# Altium integrated library ATMEGA328.IntLib: 34 symbols
Pins are listed as number, name and electrical type; pins without a type are passive.

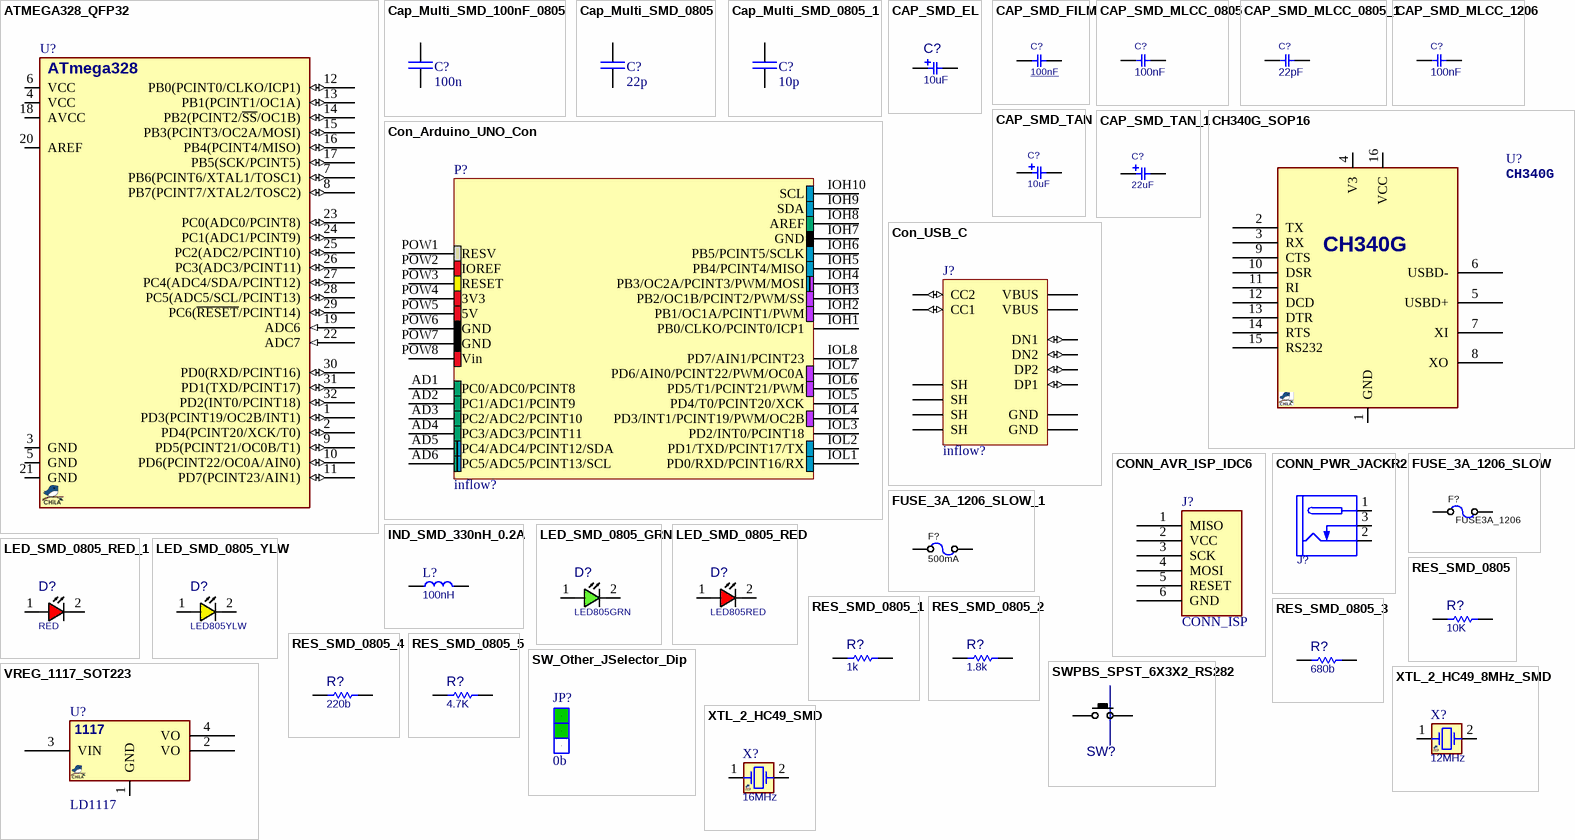
[diagram p0: symbols ATMEGA328_QFP32 to XTL_2_HC49_SMD]

## ATMEGA328_QFP32
designator U?, comment ATMEGA328  (value not drawn)
MCU, AVR, 8-Bit, 16KB, 1KB RAM, 20MHz; PART#ALT: ATmega8-48-88-168-328; MANF_P#: ATMEGA328-AU; DESC: 1KB EEPROM; MANF: ATMEL/MICROCHIP; PARAM2: 1.8~5.5V; PARAM: 32KB, 2KB RAM, 20MHz, -40~85°C; PRICE: 2.2$; VALUE: ATMEGA328
footprint QFG80_32 (TQFP32, A32 (Cypress), GP32 (Zarlink), MS-026ABA(JEDEC), 7X7mm, 0.8mm)
pins: 1 PD3(PCINT19/OC2B/INT1) (io), 2 PD4(PCINT20/XCK/T0) (io), 3 GND (power), 4 VCC (power), 5 GND (power), 6 VCC (power), 7 PB6(PCINT6/XTAL1/TOSC1) (io), 8 PB7(PCINT7/XTAL2/TOSC2) (io), 9 PD5(PCINT21/OC0B/T1) (io), 10 PD6(PCINT22/OC0A/AIN0) (io), 11 PD7(PCINT23/AIN1) (io), 12 PB0(PCINT0/CLKO/ICP1) (io), 13 PB1(PCINT1/OC1A) (io), 14 PB2(PCINT2/~{SS}/OC1B) (io), 15 PB3(PCINT3/OC2A/MOSI) (io), 16 PB4(PCINT4/MISO) (io), 17 PB5(SCK/PCINT5) (io), 18 AVCC (power), 19 ADC6 (in), 20 AREF, 21 GND (power), 22 ADC7 (in), 23 PC0(ADC0/PCINT8) (io), 24 PC1(ADC1/PCINT9) (io), 25 PC2(ADC2/PCINT10) (io), 26 PC3(ADC3/PCINT11) (io), 27 PC4(ADC4/SDA/PCINT12) (io), 28 PC5(ADC5/SCL/PCINT13) (io), 29 PC6(~{RESET}/PCINT14) (io), 30 PD0(RXD/PCINT16) (io), 31 PD1(TXD/PCINT17) (io), 32 PD2(INT0/PCINT18) (io)
text: ATmega328

## Cap_Multi_SMD_100nF_0805
designator C?, comment 100n
Bipolar ceramic capacitor SMD; Inflow: inflow?; Type: MultiLayer; Rating: 50V; Validation: Valid; Package: 0805; Value: 100n
footprint CAP 0805/2012 (Chip Capacitor, 2-Leads, Body 2.00x1.20mm, IPC Medium Density)
pins: 1, 2

## Cap_Multi_SMD_0805
designator C?, comment 22p
Bipolar ceramic capacitor SMD; Inflow: inflow?; Type: MultiLayer; Rating: Rating?; Validation: Valid; Package: 0805; Value: 22p
footprint CAP 0805/2012 (Chip Capacitor, 2-Leads, Body 2.00x1.20mm, IPC Medium Density)
pins: 1, 2

## Cap_Multi_SMD_0805_1
designator C?, comment 10p
Bipolar ceramic capacitor SMD; Inflow: inflow?; Type: MultiLayer; Rating: Rating?; Validation: Valid; Package: 0805; Value: 10p
footprint CAP 0805/2012 (Chip Capacitor, 2-Leads, Body 2.00x1.20mm, IPC Medium Density)
pins: 1, 2

## CAP_SMD_EL
designator C?, comment 10uF
CAP, SMD, ELEC,; MANF_P#: MANF_PART#; PARAM2: -V; DESC: DESCRIPTION; DIST#: MOUSER; PARAM: 20%; PRICE: 10= -$; MANF: MANF; ASSEMBLY: ASSEMBLY; VALUE: 10uF
footprint C_EL_D8L6 (Electrolytic Cap, 8.3X6)
footprint C_EL_D4L4 (Electrolytic Cap, D: 4.3mm, Size B, 3.9mm Height)
footprint C_EL_D5L6 (Electrolytic Cap, D: 5.0mm, L: 5.8mm, Size C)
footprint C_EL_D6L5 (Electrolytic Cap, D: 6.3mm L: 5.4mm, Size D)
footprint C_EL_D10L9 (Electrolytic Cap, 10.3mm, L: 8.7mm)
footprint C_EL_D12L13 (Electrolytic Cap, 12.5x13mm)
footprint C_EL_D4L5 (Electrolytic Cap, D: 4.3mm, Size B, 5.5mm Height)
footprint C_EL_D3L5 (Electrolytic Cap, D: 3.3mm, Size A, 5mm Height)
footprint C_EL_D6L4 (Electrolytic Cap, D: 6.3mm L: 3.9mm, Size D)
footprint C_EL_D6L5A (Electrolytic Cap, D: 6.3mm L: 5.4mm, Size D)
footprint C_EL_D6L6 (Electrolytic Cap, D: 6.3mm L: 5.8mm, Size D)
footprint C_EL_D6L8 (Electrolytic Cap, D: 6.3mm L: 7.7mm, Size D)
footprint C_EL_D8L10 (Electrolytic Cap, Size E, Size F, 8.3X10)
footprint C_EL_D10L10 (Electrolytic Cap, 10.3mm, L: 10mm)
footprint C_EL_D10L12 (Electrolytic Cap, 10.3mm, L: 12.4mm)
footprint C_EL_D17L17 (Electrolytic Cap, 17x17mm)
footprint C_EL_D19L17 (Electrolytic Cap, 19x17mm)
footprint C_EL_D8L10A (Electrolytic Cap, Size E, Size F, 8.3X10)
footprint C_EL_D5L5 (Electrolytic Cap, D: 5.0mm, L: 5.4mm)
pins: 1, 2

## CAP_SMD_FILM
designator C?, comment 100nF
CAP, FILM, 680nF, 16V, Acryl, 20%, 1206; PARAM: Acrylic, MetallizedStacked, 20%, -40~85oC; MANF: Murata; PRICE: 100= 40$; DESC: -; MANF_P#: -; PARAM2: 16V; ASSEMBLY: ASSEMBLY; VALUE: 100nF
footprint C1206 (CHIP Capacitor, 3.2X1.6mm, 1206)
pins: 1, 2

## CAP_SMD_MLCC_0805
designator C?, comment 100nF
CAP, MLCC; PARAM: -, -%; MANF_P#: MANF_PART#; PARAM2: -V; PRICE: 100= 1$; MANF: -; ASSEMBLY: ASSEMBLY; VALUE: 100nF
footprint C0805 (CHIP Capacitor, 2.0X1.3mm, 0805)
pins: 1, 2

## CAP_SMD_MLCC_0805_1
designator C?, comment 22pF
CAP, MLCC; PARAM: -, -%; MANF_P#: MANF_PART#; PARAM2: -V; PRICE: 100= 1$; MANF: -; ASSEMBLY: ASSEMBLY; VALUE: 22pF
footprint C0805 (CHIP Capacitor, 2.0X1.3mm, 0805)
pins: 1, 2

## CAP_SMD_MLCC_1206
designator C?, comment 100nF
CAP, MLCC; PARAM: -, -%; MANF_P#: MANF_PART#; PARAM2: -V; PRICE: 100= 1$; MANF: -; ASSEMBLY: ASSEMBLY; VALUE: 100nF
footprint C1206 (CHIP Capacitor, 3.2X1.6mm, 1206)
pins: 1, 2

## CAP_SMD_TAN
designator C?, comment 10uF
CAP, SMD, TAN; PARAM: 20%, 300mOhm, -55~105oC; MANF: VISHAY; MANF_P#: T55A106M6R3C0300; PARAM2: 6.3V; PRICE: 0.46$; VALUE: 10uF
footprint C_TN_3528 (CAPACITOR, TAN B, TAN H, TAN T, TAN M, 3528P, 1210P, 3.5X2.8mm)
footprint C_TN_3216 (CAPACITOR, TAN A, 1206P, 3.2x1.6mm)
footprint C_TN_2012 (CAPACITOR, TAN N, TAN P, TAN R, 0805P, 2X1.3mm)
footprint C_TN_3216_BLK (CAPACITOR, TAN A, 3.2x1.6mm, BLACK)
footprint C_TN_3528_BLK (CAPACITOR, TAN B, 3.5X2.8mm, BLACK)
footprint C_TN_6032 (CAPACITOR, TAN C, TAN F, TAN U, TAN L, 6032P, 6.0X3.2mm)
footprint C_TN_6032_BLK (CAPACITOR, TAN C, 6.0X3.2mm, BLACK)
footprint C_TN_7343 (CAPACITOR, TAN D, TAN E, TAN Y, TAN X, 7343P, 7.3X4.3mm)
footprint C_TN_7343_31 (CAPACITOR, TAN D, TAN E, TAN Y, TAN X, 7343P, 7.3X4.3mm)
footprint C_TN_7343_31_BLK (CAPACITOR, TAN D, 7.3X4.3mm, BLACK)
footprint C_TN_7361 (CAPACITOR, TAN V, 2924, 7361, 7.3X6.1mm)
pins: 1, 2

## CAP_SMD_TAN_1
designator C?, comment 22uF
CAP, SMD, TAN; PARAM: 20%, 300mOhm, -55~105oC; MANF: VISHAY; MANF_P#: T55A106M6R3C0300; PARAM2: 6.3V; PRICE: 0.46$; VALUE: 22uF
footprint C_TN_3528 (CAPACITOR, TAN B, TAN H, TAN T, TAN M, 3528P, 1210P, 3.5X2.8mm)
footprint C_TN_3216 (CAPACITOR, TAN A, 1206P, 3.2x1.6mm)
footprint C_TN_2012 (CAPACITOR, TAN N, TAN P, TAN R, 0805P, 2X1.3mm)
footprint C_TN_3216_BLK (CAPACITOR, TAN A, 3.2x1.6mm, BLACK)
footprint C_TN_3528_BLK (CAPACITOR, TAN B, 3.5X2.8mm, BLACK)
footprint C_TN_6032 (CAPACITOR, TAN C, TAN F, TAN U, TAN L, 6032P, 6.0X3.2mm)
footprint C_TN_6032_BLK (CAPACITOR, TAN C, 6.0X3.2mm, BLACK)
footprint C_TN_7343 (CAPACITOR, TAN D, TAN E, TAN Y, TAN X, 7343P, 7.3X4.3mm)
footprint C_TN_7343_31 (CAPACITOR, TAN D, TAN E, TAN Y, TAN X, 7343P, 7.3X4.3mm)
footprint C_TN_7343_31_BLK (CAPACITOR, TAN D, 7.3X4.3mm, BLACK)
footprint C_TN_7361 (CAPACITOR, TAN V, 2924, 7361, 7.3X6.1mm)
pins: 1, 2

## CH340G_SOP16
designator U?, comment CH340G
USB-UART; MANF_P#: CH340G; VALUE: CH340G
footprint SO_16
pins: 1 GND, 2 TX, 3 RX, 4 V3, 5 USBD+, 6 USBD-, 7 XI, 8 XO, 9 CTS, 10 DSR, 11 RI, 12 DCD, 13 DTR, 14 RTS, 15 RS232, 16 VCC

## Con_Arduino_UNO_Con
designator P?, comment Inflow: inflow?  (hidden comment: UNO)
Arduino UNO Connector; Rating: Rating?; Validation: NT; Value: UNO; Package: Package?; Type: Type?
footprint ARDUINO_UNO_CONNECTOR (Arduino Uno Connector)
pins: AD1 PC0/ADC0/PCINT8, AD2 PC1/ADC1/PCINT9, AD3 PC2/ADC2/PCINT10, AD4 PC3/ADC3/PCINT11, AD5 PC4/ADC4/PCINT12/SDA, AD6 PC5/ADC5/PCINT13/SCL, IOH1 PB0/CLKO/PCINT0/ICP1, IOH2 PB1/OC1A/PCINT1/PWM, IOH3 PB2/OC1B/PCINT2/PWM/SS, IOH4 PB3/OC2A/PCINT3/PWM/MOSI, IOH5 PB4/PCINT4/MISO, IOH6 PB5/PCINT5/SCLK, IOH7 GND, IOH8 AREF, IOH9 SDA, IOH10 SCL, IOL1 PD0/RXD/PCINT16/RX, IOL2 PD1/TXD/PCINT17/TX, IOL3 PD2/INT0/PCINT18, IOL4 PD3/INT1/PCINT19/PWM/OC2B, IOL5 PD4/T0/PCINT20/XCK, IOL6 PD5/T1/PCINT21/PWM, IOL7 PD6/AIN0/PCINT22/PWM/OC0A, IOL8 PD7/AIN1/PCINT23, POW1 RESV, POW2 IOREF, POW3 RESET, POW4 3V3, POW5 5V, POW6 GND, POW7 GND, POW8 Vin

## Con_USB_C
designator J?, comment Inflow: inflow?  (hidden comment: 12b)
USB C Female Connector; Rating: Rating?; Validation: Valid; Value: 12b; Package: SMD; Type: C
footprint HRO_TYPE-C-31-M-12
footprint HRO_TYPE-C-31-M-12 - Extended
pins: A1_B12 GND (power), A4_B9 VBUS (power), A5 CC1 (io), A6 DP1 (io), A7 DN1 (io), B1_A12 GND (power), B4_A9 VBUS (power), B5 CC2 (io), B6 DP2 (io), B7 DN2 (io), S1 SH, S2 SH, S3 SH, S4 SH

## CONN_AVR_ISP_IDC6
designator J?, comment CONN_ISP
CONN, ISP, AVR , HEADER BOX; VALUE: CONN_ISP
footprint IDC_2X3
pins: 1 MISO, 2 VCC, 3 SCK, 4 MOSI, 5 RESET, 6 GND

## CONN_PWR_JACKR2
designator J?, comment DC_POWER_JACK  (value not drawn)
CONN, PWR JACK DC, PLUG DIAM 2.0MM RA THD; MANF: CUI STACK; MANF_P#: PJ-202A, PJ-002AH, PJ-102AH, KLDX-0202; VALUE: DC_POWER_JACK
footprint JAC_PWR2 (DC POWER JACK, Power Jack KLDX-0202)
pins: 1 TIP (power), 2 SLEEVE (power), 3 INSERTION_DET (power)

## FUSE_3A_1206_SLOW
designator F?, comment FUSE3A_1206
Fuse, 3A, 32VDC, 1206, SMD, Slow Blow; PARAM: 2A; MANF: Bourns; MANF_P#: SF-1206SP300-2; PARAM2: 0.027Ohm; PRICE: 0.9$; VALUE: FUSE3A_1206
footprint F1206 (FUSE, 1206, 3.2x1.6mm)
pins: 1, 2

## FUSE_3A_1206_SLOW_1
designator F?, comment 500mA
Fuse, 3A, 32VDC, 1206, SMD, Slow Blow; PARAM: 3A; 32VDC; Slow Blow; MANF: Bourns; MANF_P#: SF-1206SP300-2; PARAM2: 0.027Ohm; PRICE: 0.9$; VALUE: 500mA
footprint F1206 (FUSE, 1206, 3.2x1.6mm)
pins: 1, 2

## IND_SMD_330nH_0.2A
designator L?, comment 100nH
INDUCTOR, SMD; MANF: EPCOS / TDK; MANF_P#: B82498F3331J; PARAM: 220mA, 1.5Ohm, -55~105oC; PRICE: 0.8$; VALUE: 100nH
footprint L0805 (INDUCTOR, FERRITE BEAD, 0805, 2.0X1.3mm)
pins: 1, 2

## LED_SMD_0805_GRN
designator D?, comment LED805GRN
LED, SMD, 0805, GREEN; PARAM: 20mA; DESC: DESCRIPTION; PARAM2: 2.2V; MANF: -; ASSEMBLY: ASSEMBLY; PRICE: 36t@Javan; MANF_P#: -; VALUE: LED805GRN
footprint LED0805GRN (LED SMD 0805, GREEN)
pins: 1 ANODE, 2 CATHODE

## LED_SMD_0805_RED
designator D?, comment LED805RED
LED, SMD, 0805, RED; DESC: DESCRIPTION; MANF_P#: MANF_PART#; PARAM2: 2.2V; MANF: MANF; ASSEMBLY: ASSEMBLY; PRICE: 36t@Javan; VALUE: LED805RED
footprint LED0805RED (LED SMD 0805, RED)
pins: 1 ANODE, 2 CATHODE

## LED_SMD_0805_RED_1
designator D?, comment RED
LED, SMD, 0805, RED; DESC: DESCRIPTION; MANF_P#: MANF_PART#; PARAM2: 2.2V; MANF: MANF; ASSEMBLY: ASSEMBLY; PRICE: 36t@Javan; VALUE: RED
footprint LED0805RED (LED SMD 0805, RED)
pins: 1 ANODE, 2 CATHODE

## LED_SMD_0805_YLW
designator D?, comment LED805YLW
LED, SMD, 0805, YELLOW; DESC: DESCRIPTION; MANF_P#: MANF_PART#; PARAM2: 2.2V; MANF: MANF; ASSEMBLY: ASSEMBLY; PRICE: 36t@Javan; VALUE: LED805YLW
footprint LED0805YLW (LED SMD 0805, YELLOW)
pins: 1 ANODE, 2 CATHODE

## RES_SMD_0805
designator R?, comment 10K
RESISTOR, SMD; PARAM: -W; DESC: DESCRIPTION; DIST#: MOUSER; PARAM2: 1%; MANF_P#: -; MANF: -; ASSEMBLY: ASSEMBLY; PRICE: 100= 0.5$; VALUE: 10K
footprint R0805 (CHIP RESISTOR 1/8 WATT ,2.0X1.3mm, 0805, 2012)
pins: 1, 2

## RES_SMD_0805_1
designator R?, comment 1k
RESISTOR, SMD; PARAM: -W; DESC: DESCRIPTION; DIST#: MOUSER; PARAM2: 1%; MANF_P#: -; MANF: -; ASSEMBLY: ASSEMBLY; PRICE: 100= 0.5$; VALUE: 1k
footprint R0805 (CHIP RESISTOR 1/8 WATT ,2.0X1.3mm, 0805, 2012)
pins: 1, 2

## RES_SMD_0805_2
designator R?, comment 1.8k
RESISTOR, SMD; PARAM: -W; DESC: DESCRIPTION; DIST#: MOUSER; PARAM2: 1%; MANF_P#: -; MANF: -; ASSEMBLY: ASSEMBLY; PRICE: 100= 0.5$; VALUE: 1.8k
footprint R0805 (CHIP RESISTOR 1/8 WATT ,2.0X1.3mm, 0805, 2012)
pins: 1, 2

## RES_SMD_0805_3
designator R?, comment 680b
RESISTOR, SMD; PARAM: -W; DESC: DESCRIPTION; DIST#: MOUSER; PARAM2: 1%; MANF_P#: -; MANF: -; ASSEMBLY: ASSEMBLY; PRICE: 100= 0.5$; VALUE: 680b
footprint R0805 (CHIP RESISTOR 1/8 WATT ,2.0X1.3mm, 0805, 2012)
pins: 1, 2

## RES_SMD_0805_4
designator R?, comment 220b
RESISTOR, SMD; PARAM: -W; DESC: DESCRIPTION; DIST#: MOUSER; PARAM2: 1%; MANF_P#: -; MANF: -; ASSEMBLY: ASSEMBLY; PRICE: 100= 0.5$; VALUE: 220b
footprint R0805 (CHIP RESISTOR 1/8 WATT ,2.0X1.3mm, 0805, 2012)
pins: 1, 2

## RES_SMD_0805_5
designator R?, comment 4.7K
RESISTOR, SMD; PARAM: -W; DESC: DESCRIPTION; DIST#: MOUSER; PARAM2: 1%; MANF_P#: -; MANF: -; ASSEMBLY: ASSEMBLY; PRICE: 100= 0.5$; VALUE: 4.7K
footprint R0805 (CHIP RESISTOR 1/8 WATT ,2.0X1.3mm, 0805, 2012)
pins: 1, 2

## SW_Other_JSelector_Dip
designator JP?, comment 0b
Jumper Selector; Rating: Rating?; Inflow: 5145; Validation: NT; Package: Dip; Type: Selector; Value: 0b
footprint jumper selector
pins: 1, 2, 3

## SWPBS_SPST_6X3X2_RS282
designator SW?, comment PUSHBUTTON  (value not drawn)
SWITCH, PUSH BUTTON, TACTILE, SMD, SPST, 6X3.5X2.5mm; MANF: C&K; DESC: DESCRIPTION; MANF_P#: RS-282G05A3-SM RT; VALUE: PUSHBUTTON; ASSEMBLY: ASSEMBLY; PARAM: PARAM; PRICE: 0.8$
footprint SWPBS_SPST_6X3X2 (SWITCH, PUSHBUTTON, SMD, SPST, 6X3.5X2.5mm, RS-282G05A3, SKQYPA, 50000 Cycles)
pins: 1 P1, 2 P3

## VREG_1117_SOT223
designator U?, comment LD1117
REG, Linear, LDO1V, 0.8A, SOT-223; MANF_P#: LD1117, LM1117, AMS1117, TLV1117, REG1117, NCP1117, LT1117, SPX1117; MANF: TI, ON, ST; PARAM2: 1.2/1.5/1.8/2.5/2.85/3.3/5V; PARAM: LDO1V, 0.8A; VALUE: LD1117
footprint SOT223_4 (SOT223, 4-Leads, Body 6.5x3.5mm, Pitch 2.30mm)
pins: 1 GND, 2 VO, 3 VIN, 4 VO
text: 1117

## XTL_2_HC49_8MHz_SMD
designator X?, comment 12MHz
Crystal MOST POPULAR ABL HC49 PACKAGE; MANF: ABRACON; MANF_P#: ABLS-8.000MHZ-B4-T; PARAM: 8MHz, 18pF, 30PPM, -20~70oC; PRICE: 0.3$; VALUE: 12MHz
footprint XTL_2_11X5 (SMD crystal resonator, ABL, ABLS, HC-49, HC49 11X4.5MM)
pins: 1 OSC1, 2 OSC2

## XTL_2_HC49_SMD
designator X?, comment 16MHz
Crystal MOST POPULAR ABL HC49 PACKAGE; VALUE: 16MHz
footprint XTL_2_11X5 (SMD crystal resonator, ABL, ABLS, HC-49, HC49 11X4.5MM)
pins: 1 OSC1, 2 OSC2